# EAGLE library part RFM69H (library SparkFun-RF)
Hope RF RFM69H ISM Transceiver Module The RFM69H is a transceiver module capable of operation over a wide frequency range, including the 315,433,868 and 915MHz license-free ISM (Industry Scientific and Medical) frequency bands. All major RF communication parameters are programmable and most of them can be dynamically set. The RFM69H offers the unique advantage of programmable narrow-band and wide- band communication modes. The RFM69H is optimized for low power consumption while offering high RF output power and channelized operation.Compliance ETSI and FCC regulations. Datasheet <http://www.hoperf.cn/upload/docs/RF/SX/RFM69H_DataSheet_v1.3.pdf> SparkFun Products RFM69HCW Wireless Transceiver - 915MHz <https://www.sparkfun.com/products/13909> (COM-13909) RFM69HCW Wireless Transceiver - 434MHz <https://www.sparkfun.com/products/13910> (COM-13910) SparkFun RFM69 Breakout (915MHz) <https://www.sparkfun.com/products/12775> (WRL-12775) SparkFun RFM69 Breakout (434MHz) <https://www.sparkfun.com/products/12823> (WRL-12823)
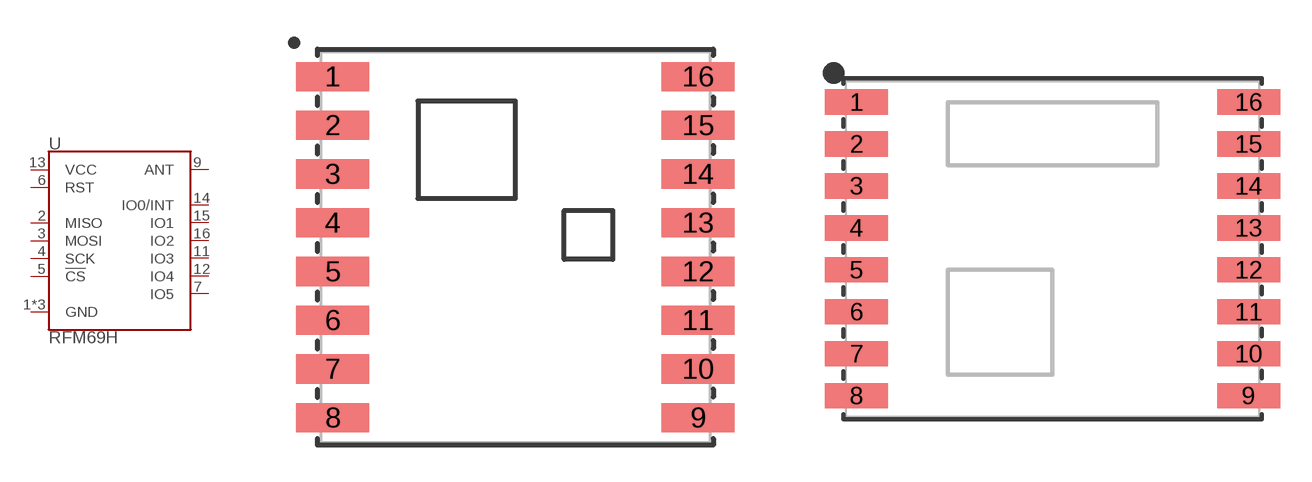
[diagram p8: symbol with the pads of RFM69HCW-XXXS2; footprints RFM69HCW-XXXS2, RFM69W-XXXS2]

Designator prefix U

## RFM69HCW-915 (PROD_ID: IC-11997; VALUE: 915MHz)  [RFM69HCW-XXXS2]
1  GND  pwr
2  MISO
3  MOSI  in
4  SCK  in
5  !CS  in
6  RST  in
7  IO5
8  GND  pwr
9  ANT  pas
10  GND  pwr
11  IO3
12  IO4
13  VCC  pwr
14  IO0/INT
15  IO1
16  IO2

## RFM69HW  [RFM69W-XXXS2]
1  RST  in
2  IO0/INT
3  IO1
4  IO2
5  IO3
6  IO4
7  IO5
8  VCC  pwr
9  GND  pwr
10  ANT  pas
11  GND  pwr
12  SCK  in
13  MISO
14  MOSI  in
15  !CS  in

## RFM69HCW-433 (PROD_ID: IC-12053; VALUE: 433MHz)  [RFM69HCW-XXXS2]
Pads as for RFM69HCW-XXXS2

## Footprint RFM69HCW-XXXS2 (pad centres in mm)
Hope RF RFM69HCW RF Transciever Datasheet <http://www.orcam.eu/res/Datablad/rfm69hcwv11.pdf>
smd 3 x 1.2: 1 -7.5,7; 2 -7.5,5; 3 -7.5,3; 4 -7.5,1; 5 -7.5,-1; 6 -7.5,-3; 7 -7.5,-5; 8 -7.5,-7; 9 7.5,-7; 10 7.5,-5; 11 7.5,-3; 12 7.5,-1; 13 7.5,1; 14 7.5,3; 15 7.5,5; 16 7.5,7

## Footprint RFM69W-XXXS2 (pad centres in mm)
Hope RF RFM69HW RF Transceiver Datasheet <http://www.hoperf.com/upload/rf/RFM69HW-V1.3.pdf>
smd 3 x 1.2: 1 -9.35,7; 2 -9.35,5; 3 -9.35,3; 4 -9.35,1; 5 -9.35,-1; 6 -9.35,-3; 7 -9.35,-5; 8 -9.35,-7; 9 9.35,-7; 10 9.35,-5; 11 9.35,-3; 12 9.35,-1; 13 9.35,1; 14 9.35,3; 15 9.35,5; 16 9.35,7